# Altium footprint library Quad In-Line Package (QUIP).PcbLib: 2 footprints
Each footprint in its own frame and in the unit in brackets; x right, y up, seen from the top. Pads: shape width x height; smd on the part's side, far side on the other; paste and mask are expansions set on the pad; w line width, h text height; cw(c..) or ccw(c..) is an arc to the next point about the centre after c.
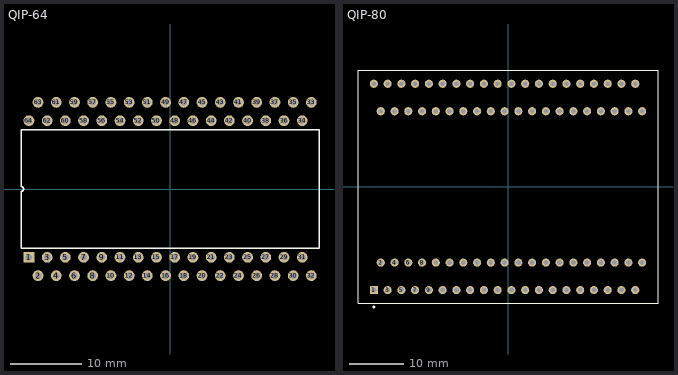
[diagram p0: the footprints below, top view; thin cyan lines are the x and y axes]

## QIP-64 [mm] "QUIP; 64 Leads, in two Staggered Rows, each of 2.54 mm pitch"
height 2.35
pads (64):
  rect 1.5x1.5 hole 0.9: 1(-19.685,-9.525)
  round 1.5 hole 0.9: 2(-18.415,-12.075) 3(-17.145,-9.525) 4(-15.875,-12.075) 5(-14.605,-9.525) 6(-13.335,-12.075) 7(-12.065,-9.525) 8(-10.795,-12.075) 9(-9.525,-9.525) 10(-8.255,-12.075) 11(-6.985,-9.525) 12(-5.715,-12.075) 13(-4.445,-9.525) 14(-3.175,-12.075) 15(-1.905,-9.525) 16(-0.635,-12.075) 17(0.635,-9.525) 18(1.905,-12.075) 19(3.175,-9.525) 20(4.445,-12.075) 21(5.715,-9.525) 22(6.985,-12.075) 23(8.255,-9.525) 24(9.525,-12.075) 25(10.795,-9.525) 26(12.065,-12.075) 27(13.335,-9.525) 28(14.605,-12.075) 29(15.875,-9.525) 30(17.145,-12.075) 31(18.415,-9.525) 32(19.685,-12.075) 33(19.685,12.075) 34(18.415,9.525) 35(17.145,12.075) 36(15.875,9.525) 37(14.605,12.075) 38(13.335,9.525) 39(12.065,12.075) 40(10.795,9.525) 41(9.525,12.075) 42(8.255,9.525) 43(6.985,12.075) 44(5.715,9.525) 45(4.445,12.075) 46(3.175,9.525) 47(1.905,12.075) 48(0.635,9.525) 49(-0.635,12.075) 50(-1.905,9.525) 51(-3.175,12.075) 52(-4.445,9.525) 53(-5.715,12.075) 54(-6.985,9.525) 55(-8.255,12.075) 56(-9.525,9.525) 57(-10.795,12.075) 58(-12.065,9.525) 59(-13.335,12.075) 60(-14.605,9.525) 61(-15.875,12.075) 62(-17.145,9.525) 63(-18.415,12.075) 64(-19.685,9.525)
Top Overlay:
  lines w0.2: -20.75,-8.25 20.75,-8.25 20.75,8.25 -20.75,8.25 -20.75,0.318 cw(c-20.75,0) -20.75,-0.318 -20.75,-8.25

## QIP-80 [mm] "QUIP; 80 Leads, in two Staggered Rows, each of 2.54 mm pitch"
height 5.84
pads (80):
  rect 1.5x1.5 hole 0.9: 1(-24.765,-19.05)
  round 1.5 hole 0.9: 2(-23.495,-13.97) 3(-22.225,-19.05) 4(-20.955,-13.97) 5(-19.685,-19.05) 6(-18.415,-13.97) 7(-17.145,-19.05) 8(-15.875,-13.97) 9(-14.605,-19.05) 10(-13.335,-13.97) 11(-12.065,-19.05) 12(-10.795,-13.97) 13(-9.525,-19.05) 14(-8.255,-13.97) 15(-6.985,-19.05) 16(-5.715,-13.97) 17(-4.445,-19.05) 18(-3.175,-13.97) 19(-1.905,-19.05) 20(-0.635,-13.97) 21(0.635,-19.05) 22(1.905,-13.97) 23(3.175,-19.05) 24(4.445,-13.97) 25(5.715,-19.05) 26(6.985,-13.97) 27(8.255,-19.05) 28(9.525,-13.97) 29(10.795,-19.05) 30(12.065,-13.97) 31(13.335,-19.05) 32(14.605,-13.97) 33(15.875,-19.05) 34(17.145,-13.97) 35(18.415,-19.05) 36(19.685,-13.97) 37(20.955,-19.05) 38(22.225,-13.97) 39(23.495,-19.05) 40(24.765,-13.97) 41(24.765,13.97) 42(23.495,19.05) 43(22.225,13.97) 44(20.955,19.05) 45(19.685,13.97) 46(18.415,19.05) 47(17.145,13.97) 48(15.875,19.05) 49(14.605,13.97) 50(13.335,19.05) 51(12.065,13.97) 52(10.795,19.05) 53(9.525,13.97) 54(8.255,19.05) 55(6.985,13.97) 56(5.715,19.05) 57(4.445,13.97) 58(3.175,19.05) 59(1.905,13.97) 60(0.635,19.05) 61(-0.635,13.97) 62(-1.905,19.05) 63(-3.175,13.97) 64(-4.445,19.05) 65(-5.715,13.97) 66(-6.985,19.05) 67(-8.255,13.97) 68(-9.525,19.05) 69(-10.795,13.97) 70(-12.065,19.05) 71(-13.335,13.97) 72(-14.605,19.05) 73(-15.875,13.97) 74(-17.145,19.05) 75(-18.415,13.97) 76(-19.685,19.05) 77(-20.955,13.97) 78(-22.225,19.05) 79(-23.495,13.97) 80(-24.765,19.05)
Top Overlay:
  circle w0.25: c-24.765,-22.175 r0.125
  lines w0.2: -27.7,-21.525 -27.7,21.525 27.7,21.525 27.7,-21.525 -27.7,-21.525